# Altium schematic symbol library Schlib1.SchLib: 1 symbol
Pins are listed as number, name and electrical type; pins without a type are passive.

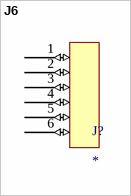
[diagram p0: symbol J6]

## J6
designator J?
footprint J6
pins: 1 (io), 2 (io), 3 (io), 4 (io), 5 (io), 6 (io)